# EAGLE library part SARA-N310-00X (library SARA-N310-00X)
Cellular Modules NB-IoT multiband global module Cat NB1, Band 3, 5, 8, 20, 28 LGA, 16x26 mm, 250 pcs/reel Source: Datasheet <https://content.u-blox.com/sites/default/files/SARA-N3_DataSheet_UBX-18066692.pdf>
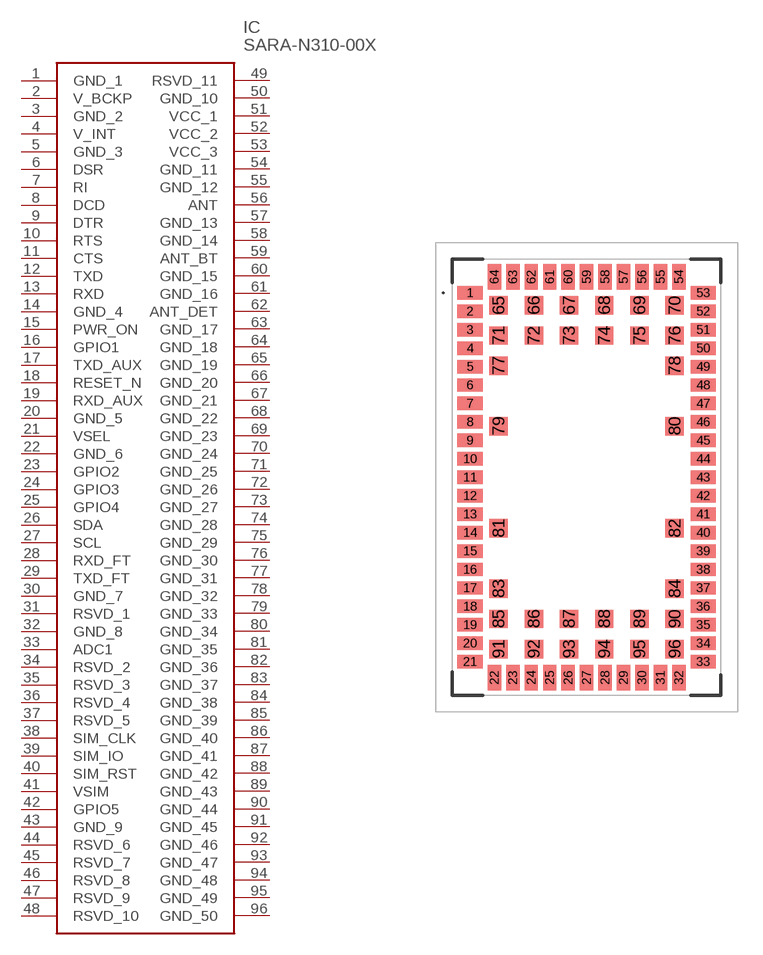
[diagram p0: symbol with the pads of SARAN31000X; footprint SARAN31000X]

Designator prefix IC

## SARA-N310-00X (Description: Cellular Modules NB-IoT multiband global module Cat NB1, Band 3, 5, 8, 20, 28 LGA, 16x26 mm, 250 pcs/reel; Height: 2.65mm; Manufacturer_Name: u-blox; Manufacturer_Part_Number: SARA-N310-00X; Mouser_Part_Number: 377-SARA-N310-00X; Mouser_Price-Stock: https://www.mouser.co.uk/ProductDetail/u-blox/SARA-N310-00X?qs=KUoIvG%2F9IlbUjCHEHTky9Q%3D%3D)  [SARAN31000X]
1  GND_1
2  V_BCKP
3  GND_2
4  V_INT
5  GND_3
6  DSR
7  RI
8  DCD
9  DTR
10  RTS
11  CTS
12  TXD
13  RXD
14  GND_4
15  PWR_ON
16  GPIO1
17  TXD_AUX
18  RESET_N
19  RXD_AUX
20  GND_5
21  VSEL
22  GND_6
23  GPIO2
24  GPIO3
25  GPIO4
26  SDA
27  SCL
28  RXD_FT
29  TXD_FT
30  GND_7
31  RSVD_1
32  GND_8
33  ADC1
34  RSVD_2
35  RSVD_3
36  RSVD_4
37  RSVD_5
38  SIM_CLK
39  SIM_IO
40  SIM_RST
41  VSIM
42  GPIO5
43  GND_9
44  RSVD_6
45  RSVD_7
46  RSVD_8
47  RSVD_9
48  RSVD_10
49  RSVD_11
50  GND_10
51  VCC_1
52  VCC_2
53  VCC_3
54  GND_11
55  GND_12
56  ANT
57  GND_13
58  GND_14
59  ANT_BT
60  GND_15
61  GND_16
62  ANT_DET
63  GND_17
64  GND_18
65  GND_19
66  GND_20
67  GND_21
68  GND_22
69  GND_23
70  GND_24
71  GND_25
72  GND_26
73  GND_27
74  GND_28
75  GND_29
76  GND_30
77  GND_31
78  GND_32
79  GND_33
80  GND_34
81  GND_35
82  GND_36
83  GND_37
84  GND_38
85  GND_39
86  GND_40
87  GND_41
88  GND_42
89  GND_43
90  GND_44
91  GND_45
92  GND_46
93  GND_47
94  GND_48
95  GND_49
96  GND_50

## Footprint SARAN31000X (pad centres in mm)
26mm x 16mm x 2.4mm
smd 1.5 x 0.8: 1 -6.95,11; 2 -6.95,9.9; 3 -6.95,8.8; 4 -6.95,7.7; 5 -6.95,6.6; 6 -6.95,5.5; 7 -6.95,4.4; 8 -6.95,3.3; 9 -6.95,2.2; 10 -6.95,1.1; 11 -6.95,0; 12 -6.95,-1.1; 13 -6.95,-2.2; 14 -6.95,-3.3; 15 -6.95,-4.4; 16 -6.95,-5.5; 17 -6.95,-6.6; 18 -6.95,-7.7; 19 -6.95,-8.8; 20 -6.95,-9.9; 21 -6.95,-11; 33 6.95,-11; 34 6.95,-9.9; 35 6.95,-8.8; 36 6.95,-7.7; 37 6.95,-6.6; 38 6.95,-5.5; 39 6.95,-4.4; 40 6.95,-3.3; 41 6.95,-2.2; 42 6.95,-1.1; 43 6.95,0; 44 6.95,1.1; 45 6.95,2.2; 46 6.95,3.3; 47 6.95,4.4; 48 6.95,5.5; 49 6.95,6.6; 50 6.95,7.7; 51 6.95,8.8; 52 6.95,9.9; 53 6.95,11
smd 0.8 x 1.5: 22 -5.5,-11.95; 23 -4.4,-11.95; 24 -3.3,-11.95; 25 -2.2,-11.95; 26 -1.1,-11.95; 27 0,-11.95; 28 1.1,-11.95; 29 2.2,-11.95; 30 3.3,-11.95; 31 4.4,-11.95; 32 5.5,-11.95; 54 5.5,11.95; 55 4.4,11.95; 56 3.3,11.95; 57 2.2,11.95; 58 1.1,11.95; 59 0,11.95; 60 -1.1,11.95; 61 -2.2,11.95; 62 -3.3,11.95; 63 -4.4,11.95; 64 -5.5,11.95
smd 1.1 x 1.1: 65 -5.25,10.25; 66 -3.15,10.25; 67 -1.05,10.25; 68 1.05,10.25; 69 3.15,10.25; 70 5.25,10.25; 71 -5.25,8.45; 72 -3.15,8.45; 73 -1.05,8.45; 74 1.05,8.45; 75 3.15,8.45; 76 5.25,8.45; 77 -5.25,6.65; 78 5.25,6.65; 79 -5.25,3.05; 80 5.25,3.05; 81 -5.25,-3.05; 82 5.25,-3.05; 83 -5.25,-6.65; 84 5.25,-6.65; 85 -5.25,-8.45; 86 -3.15,-8.45; 87 -1.05,-8.45; 88 1.05,-8.45; 89 3.15,-8.45; 90 5.25,-8.45; 91 -5.25,-10.25; 92 -3.15,-10.25; 93 -1.05,-10.25; 94 1.05,-10.25; 95 3.15,-10.25; 96 5.25,-10.25